# EAGLE library part AT25DF (library JLB6_Processor)
Serial DATAFLASH serie AT25DFxxx (Atmel)
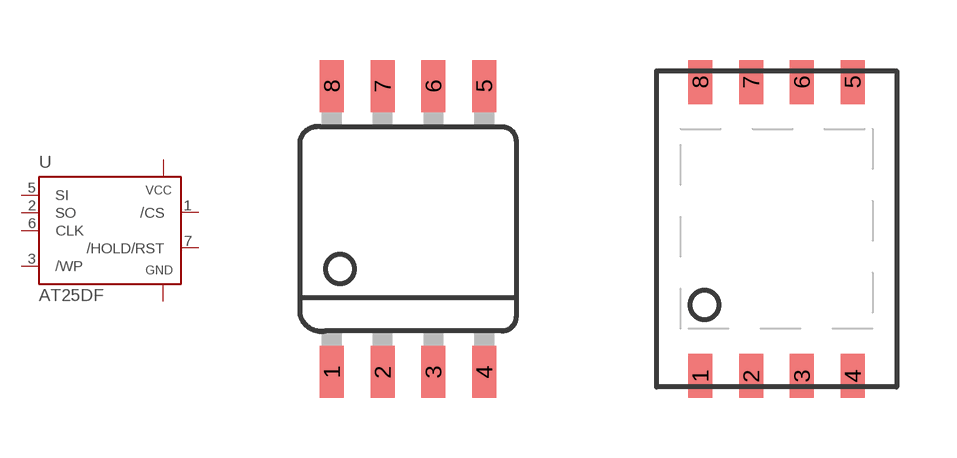
[diagram p24: symbol with the pads of SO-08M; footprints SO-08M, VDFN8_8MM]

Designator prefix U

## AT25DF321  [SO-08M]
1  /CS  in
2  SO
3  /WP  pas
4  GND  pwr
5  SI  in
6  CLK  in
7  /HOLD/RST  in
8  VCC  pwr

## AT25DF642  [VDFN8_8MM]
Pads as for SO-08M

## Footprint SO-08M (pad centres in mm)
Small Outline Medium Plastic Gull Wing 207-mil body, package type SM
smd 0.6 x 1.3: 1 -1.905,-3.58; 2 -0.635,-3.58; 3 0.635,-3.58; 4 1.905,-3.58; 5 1.905,3.58; 6 0.635,3.58; 7 -0.635,3.58; 8 -1.905,3.58

## Footprint VDFN8_8MM (pad centres in mm)
smd 0.6 x 1.1: 1 -1.905,-3.68; 2 -0.635,-3.68; 3 0.635,-3.68; 4 1.905,-3.68; 5 1.905,3.68; 6 0.635,3.68; 7 -0.635,3.68; 8 -1.905,3.68